# Altium schematic symbol library uBlox_GPS.SchLib: 2 symbols
Pins are listed as number, name and electrical type; pins without a type are passive.

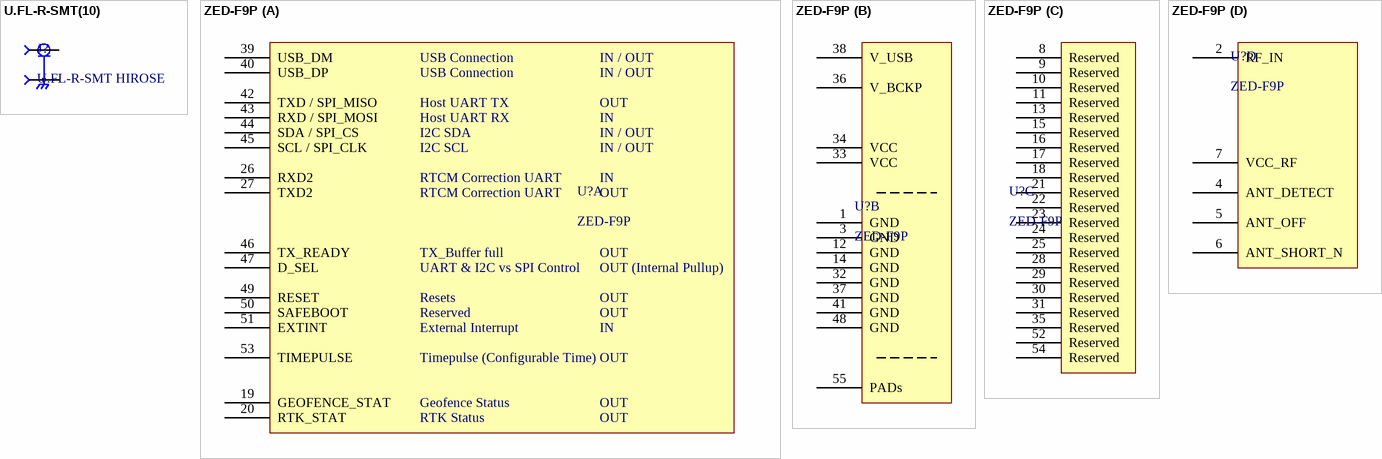
[diagram p0: symbols U.FL-R-SMT(10) to ZED-F9P]

## U.FL-R-SMT(10)
designator J?, comment U.FL-R-SMT HIROSE
U.FL (UMCC) Connector Receptacle, Male Pin 50Ohm Surface Mount Solder
footprint U.FL-R-SMT HIROSE
pins: 1 SIG, 2 GND

## ZED-F9P
designator U?
footprint uBlox_ZED-F9P
part A pins: 19 GEOFENCE_STAT, 20 RTK_STAT, 26 RXD2, 27 TXD2, 39 USB_DM, 40 USB_DP, 42 TXD / SPI_MISO, 43 RXD / SPI_MOSI, 44 SDA / SPI_CS, 45 SCL / SPI_CLK, 46 TX_READY, 47 D_SEL, 49 RESET, 50 SAFEBOOT, 51 EXTINT, 53 TIMEPULSE
part B pins: 1 GND, 3 GND, 12 GND, 14 GND, 32 GND, 33 VCC, 34 VCC, 36 V_BCKP, 37 GND, 38 V_USB, 41 GND, 48 GND, 55 PADs
part C pins: 8 Reserved, 9 Reserved, 10 Reserved, 11 Reserved, 13 Reserved, 15 Reserved, 16 Reserved, 17 Reserved, 18 Reserved, 21 Reserved, 22 Reserved, 23 Reserved, 24 Reserved, 25 Reserved, 28 Reserved, 29 Reserved, 30 Reserved, 31 Reserved, 35 Reserved, 52 Reserved, 54 Reserved
part D pins: 2 RF_IN, 4 ANT_DETECT, 5 ANT_OFF, 6 ANT_SHORT_N, 7 VCC_RF
part A text: USB Connection; IN / OUT; Host UART TX; OUT; Host UART RX; IN; I2C SDA; I2C SCL; RTCM Correction UART; TX_Buffer full; UART & I2C vs SPI Control; OUT (Internal Pullup); Resets; External Interrupt; Timepulse (Configurable Time); Geofence Status; RTK Status